# EAGLE library part CH559L (library CH559L)
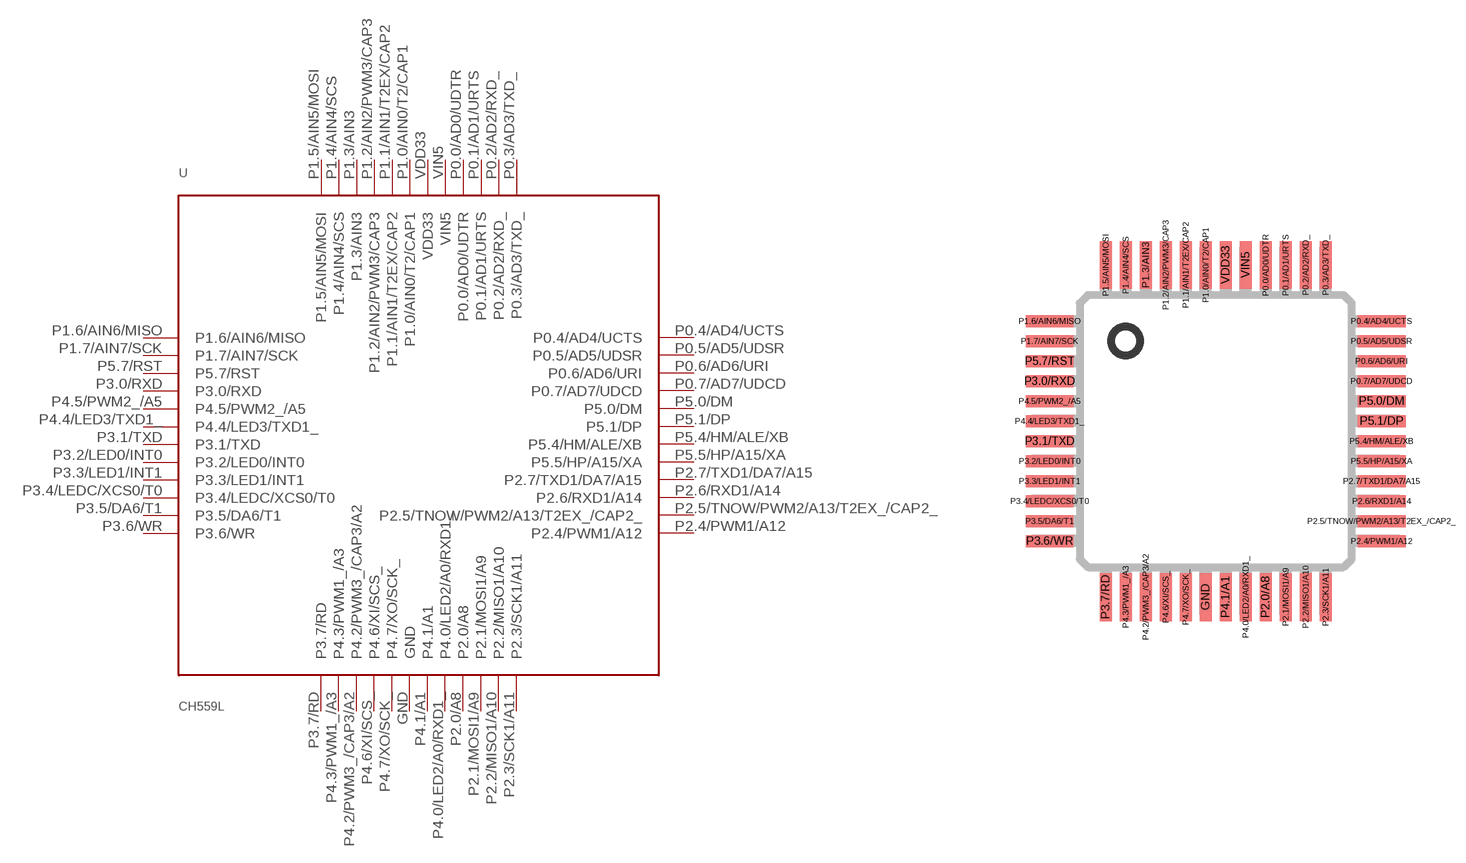
[diagram p0: symbol with the pads of TQFP48_7X7; footprint TQFP48_7X7]

Designator prefix U

## CH559L  [TQFP48_7X7]
GND  GND
P0.0/AD0/UDTR  P0.0/AD0/UDTR
P0.1/AD1/URTS  P0.1/AD1/URTS
P0.2/AD2/RXD_  P0.2/AD2/RXD_
P0.3/AD3/TXD_  P0.3/AD3/TXD_
P0.4/AD4/UCTS  P0.4/AD4/UCTS
P0.5/AD5/UDSR  P0.5/AD5/UDSR
P0.6/AD6/URI  P0.6/AD6/URI
P0.7/AD7/UDCD  P0.7/AD7/UDCD
P1.0/AIN0/T2/CAP1  P1.0/AIN0/T2/CAP1
P1.1/AIN1/T2EX/CAP2  P1.1/AIN1/T2EX/CAP2
P1.2/AIN2/PWM3/CAP3  P1.2/AIN2/PWM3/CAP3
P1.3/AIN3  P1.3/AIN3
P1.4/AIN4/SCS  P1.4/AIN4/SCS
P1.5/AIN5/MOSI  P1.5/AIN5/MOSI
P1.6/AIN6/MISO  P1.6/AIN6/MISO
P1.7/AIN7/SCK  P1.7/AIN7/SCK
P2.0/A8  P2.0/A8
P2.1/MOSI1/A9  P2.1/MOSI1/A9
P2.2/MISO1/A10  P2.2/MISO1/A10
P2.3/SCK1/A11  P2.3/SCK1/A11
P2.4/PWM1/A12  P2.4/PWM1/A12
P2.5/TNOW/PWM2/A13/T2EX_/CAP2_  P2.5/TNOW/PWM2/A13/T2EX_/CAP2_
P2.6/RXD1/A14  P2.6/RXD1/A14
P2.7/TXD1/DA7/A15  P2.7/TXD1/DA7/A15
P3.0/RXD  P3.0/RXD
P3.1/TXD  P3.1/TXD
P3.2/LED0/INT0  P3.2/LED0/INT0
P3.3/LED1/INT1  P3.3/LED1/INT1
P3.4/LEDC/XCS0/T0  P3.4/LEDC/XCS0/T0
P3.5/DA6/T1  P3.5/DA6/T1
P3.6/WR  P3.6/WR
P3.7/RD  P3.7/RD
P4.0/LED2/A0/RXD1_  P4.0/LED2/A0/RXD1_
P4.1/A1  P4.1/A1
P4.2/PWM3_/CAP3/A2  P4.2/PWM3_/CAP3/A2
P4.3/PWM1_/A3  P4.3/PWM1_/A3
P4.4/LED3/TXD1_  P4.4/LED3/TXD1_
P4.5/PWM2_/A5  P4.5/PWM2_/A5
P4.6/XI/SCS_  P4.6/XI/SCS_
P4.7/XO/SCK_  P4.7/XO/SCK_
P5.0/DM  P5.0/DM
P5.1/DP  P5.1/DP
P5.4/HM/ALE/XB  P5.4/HM/ALE/XB
P5.5/HP/A15/XA  P5.5/HP/A15/XA
P5.7/RST  P5.7/RST
VDD33  VDD33
VIN5  VIN5

## Footprint TQFP48_7X7 (pad centres in mm)
48-Pin LQFP (Case #932) Source: http://www.freescale.com/files/microcontrollers/doc/data_sheet/MC68HC908AP64.pdf
smd 0.3 x 1.2: GND -0.25,-4.15; P0.0/AD0/UDTR 1.25,4.15; P0.1/AD1/URTS 1.75,4.15; P0.2/AD2/RXD_ 2.25,4.15; P0.3/AD3/TXD_ 2.75,4.15; P1.0/AIN0/T2/CAP1 -0.25,4.15; P1.1/AIN1/T2EX/CAP2 -0.75,4.15; P1.2/AIN2/PWM3/CAP3 -1.25,4.15; P1.3/AIN3 -1.75,4.15; P1.4/AIN4/SCS -2.25,4.15; P1.5/AIN5/MOSI -2.75,4.15; P2.0/A8 1.25,-4.15; P2.1/MOSI1/A9 1.75,-4.15; P2.2/MISO1/A10 2.25,-4.15; P2.3/SCK1/A11 2.75,-4.15; P3.7/RD -2.75,-4.15; P4.0/LED2/A0/RXD1_ 0.75,-4.15; P4.1/A1 0.25,-4.15; P4.2/PWM3_/CAP3/A2 -1.75,-4.15; P4.3/PWM1_/A3 -2.25,-4.15; P4.6/XI/SCS_ -1.25,-4.15; P4.7/XO/SCK_ -0.75,-4.15; VDD33 0.25,4.15; VIN5 0.75,4.15
smd 1.2 x 0.3: P0.4/AD4/UCTS 4.15,2.75; P0.5/AD5/UDSR 4.15,2.25; P0.6/AD6/URI 4.15,1.75; P0.7/AD7/UDCD 4.15,1.25; P1.6/AIN6/MISO -4.15,2.75; P1.7/AIN7/SCK -4.15,2.25; P2.4/PWM1/A12 4.15,-2.75; P2.5/TNOW/PWM2/A13/T2EX_/CAP2_ 4.15,-2.25; P2.6/RXD1/A14 4.15,-1.75; P2.7/TXD1/DA7/A15 4.15,-1.25; P3.0/RXD -4.15,1.25; P3.1/TXD -4.15,-0.25; P3.2/LED0/INT0 -4.15,-0.75; P3.3/LED1/INT1 -4.15,-1.25; P3.4/LEDC/XCS0/T0 -4.15,-1.75; P3.5/DA6/T1 -4.15,-2.25; P3.6/WR -4.15,-2.75; P4.4/LED3/TXD1_ -4.15,0.25; P4.5/PWM2_/A5 -4.15,0.75; P5.0/DM 4.15,0.75; P5.1/DP 4.15,0.25; P5.4/HM/ALE/XB 4.15,-0.25; P5.5/HP/A15/XA 4.15,-0.75; P5.7/RST -4.15,1.75